# Altium footprint library flyback_transformer.PcbLib: 1 footprints
Each footprint in its own frame and in the unit in brackets; x right, y up, seen from the top. Pads: shape width x height; smd on the part's side, far side on the other; paste and mask are expansions set on the pad; w line width, h text height; cw(c..) or ccw(c..) is an arc to the next point about the centre after c.
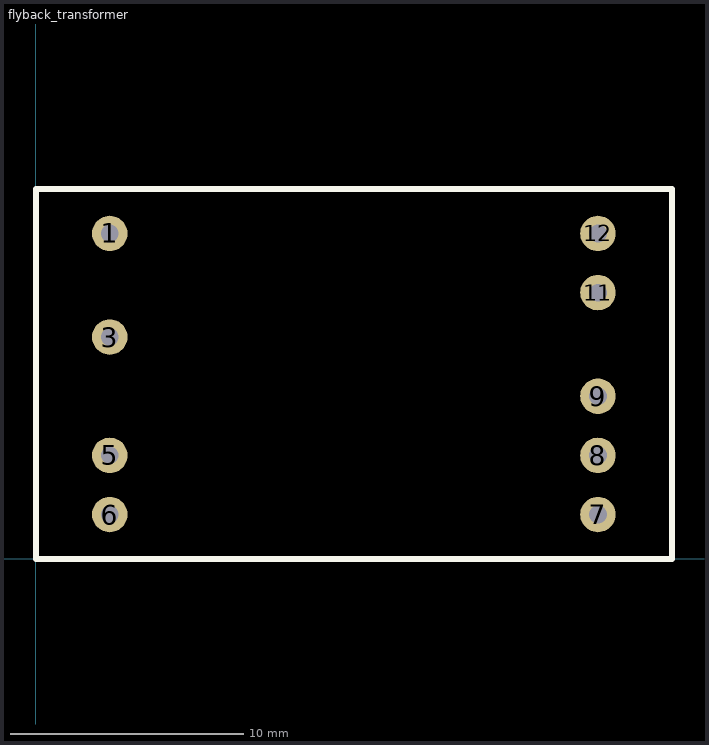
[diagram p0: the footprint, top view; thin cyan lines are the x and y axes]

## flyback_transformer [mil] "750344264-02"
pads (9):
  round 60 hole 30: 1(125,550) 3(125,375) 5(125,175) 6(125,75) 7(950,75) 8(950,175) 9(950,275) 11(950,450) 12(950,550)
Top Overlay:
  lines w10: 0,0 0,530 0,625 1075,625 1075.56,624.44 1075.56,0.56 1075,0 1060,0 700,0 0,0